# Altium footprint library Andon Electronics.PcbLib: 3 footprints
Each footprint in its own frame and in the unit in brackets; x right, y up, seen from the top. Pads: shape width x height; smd on the part's side, far side on the other; paste and mask are expansions set on the pad; w line width, h text height; cw(c..) or ccw(c..) is an arc to the next point about the centre after c.
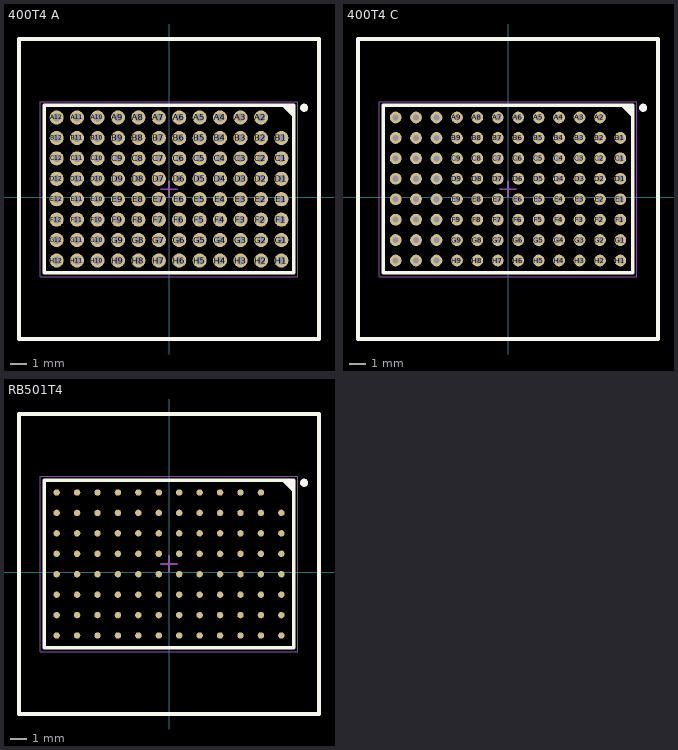
[diagram p0: the footprints below, top view; thin cyan lines are the x and y axes]

## 400T4 A [mm]
pads (95):
  round 0.88 hole 0.48: A2(5.715,4.953) A3(4.445,4.953) A4(3.175,4.953) A5(1.905,4.953) A6(0.635,4.953) A7(-0.635,4.953) A8(-1.905,4.953) A9(-3.175,4.953) A10(-4.445,4.953) A11(-5.715,4.953) A12(-6.985,4.953) B1(6.985,3.683) B2(5.715,3.683) B3(4.445,3.683) B4(3.175,3.683) B5(1.905,3.683) B6(0.635,3.683) B7(-0.635,3.683) B8(-1.905,3.683) B9(-3.175,3.683) B10(-4.445,3.683) B11(-5.715,3.683) B12(-6.985,3.683) C1(6.985,2.413) C2(5.715,2.413) C3(4.445,2.413) C4(3.175,2.413) C5(1.905,2.413) C6(0.635,2.413) C7(-0.635,2.413) C8(-1.905,2.413) C9(-3.175,2.413) C10(-4.445,2.413) C11(-5.715,2.413) C12(-6.985,2.413) D1(6.985,1.143) D2(5.715,1.143) D3(4.445,1.143) D4(3.175,1.143) D5(1.905,1.143) D6(0.635,1.143) D7(-0.635,1.143) D8(-1.905,1.143) D9(-3.175,1.143) D10(-4.445,1.143) D11(-5.715,1.143) D12(-6.985,1.143) E1(6.985,-0.127) E2(5.715,-0.127) E3(4.445,-0.127) E4(3.175,-0.127) E5(1.905,-0.127) E6(0.635,-0.127) E7(-0.635,-0.127) E8(-1.905,-0.127) E9(-3.175,-0.127) E10(-4.445,-0.127) E11(-5.715,-0.127) E12(-6.985,-0.127) F1(6.985,-1.397) F2(5.715,-1.397) F3(4.445,-1.397) F4(3.175,-1.397) F5(1.905,-1.397) F6(0.635,-1.397) F7(-0.635,-1.397) F8(-1.905,-1.397) F9(-3.175,-1.397) F10(-4.445,-1.397) F11(-5.715,-1.397) F12(-6.985,-1.397) G1(6.985,-2.667) G2(5.715,-2.667) G3(4.445,-2.667) G4(3.175,-2.667) G5(1.905,-2.667) G6(0.635,-2.667) G7(-0.635,-2.667) G8(-1.905,-2.667) G9(-3.175,-2.667) G10(-4.445,-2.667) G11(-5.715,-2.667) G12(-6.985,-2.667) H1(6.985,-3.937) H2(5.715,-3.937) H3(4.445,-3.937) H4(3.175,-3.937) H5(1.905,-3.937) H6(0.635,-3.937) H7(-0.635,-3.937) H8(-1.905,-3.937) H9(-3.175,-3.937) H10(-4.445,-3.937) H11(-5.715,-3.937) H12(-6.985,-3.937)
Top Overlay:
  circle w0.25: c8.4,5.558 r0.125
  region: 7.093,5.708 7.75,5.051 7.75,5.708
  lines w0.2: 7.093,5.708 7.75,5.051 ; -7.75,-4.692 -7.75,5.708 7.75,5.708 7.75,-4.692 -7.75,-4.692
  lines w0.254: -9.325,-8.817 -9.325,9.833 9.325,9.833 9.325,-8.817 -9.325,-8.817
Mechanical 13:
  lines w0.1: -7.745,-4.687 -7.745,5.703 7.745,5.703 7.745,-4.687 -7.745,-4.687
Mechanical 15:
  lines w0.05: -7.999,-4.953 -7.999,5.947 8.001,5.947 8.001,-4.953 -7.999,-4.953
  lines w0.1: -0.499,0.497 0.501,0.497 ; 0.001,-0.003 0.001,0.997
3D body: height 3.4, standoff 0.16, extent -7.745,-4.687 7.745,5.703

## 400T4 C [mm]
pads (95):
  round 0.73 hole 0.38: A2(5.715,4.953) A3(4.445,4.953) A4(3.175,4.953) A5(1.905,4.953) A6(0.635,4.953) A7(-0.635,4.953) A8(-1.905,4.953) A9(-3.175,4.953) A10(-4.445,4.953) A11(-5.715,4.953) A12(-6.985,4.953) B1(6.985,3.683) B2(5.715,3.683) B3(4.445,3.683) B4(3.175,3.683) B5(1.905,3.683) B6(0.635,3.683) B7(-0.635,3.683) B8(-1.905,3.683) B9(-3.175,3.683) B10(-4.445,3.683) B11(-5.715,3.683) B12(-6.985,3.683) C1(6.985,2.413) C2(5.715,2.413) C3(4.445,2.413) C4(3.175,2.413) C5(1.905,2.413) C6(0.635,2.413) C7(-0.635,2.413) C8(-1.905,2.413) C9(-3.175,2.413) C10(-4.445,2.413) C11(-5.715,2.413) C12(-6.985,2.413) D1(6.985,1.143) D2(5.715,1.143) D3(4.445,1.143) D4(3.175,1.143) D5(1.905,1.143) D6(0.635,1.143) D7(-0.635,1.143) D8(-1.905,1.143) D9(-3.175,1.143) D10(-4.445,1.143) D11(-5.715,1.143) D12(-6.985,1.143) E1(6.985,-0.127) E2(5.715,-0.127) E3(4.445,-0.127) E4(3.175,-0.127) E5(1.905,-0.127) E6(0.635,-0.127) E7(-0.635,-0.127) E8(-1.905,-0.127) E9(-3.175,-0.127) E10(-4.445,-0.127) E11(-5.715,-0.127) E12(-6.985,-0.127) F1(6.985,-1.397) F2(5.715,-1.397) F3(4.445,-1.397) F4(3.175,-1.397) F5(1.905,-1.397) F6(0.635,-1.397) F7(-0.635,-1.397) F8(-1.905,-1.397) F9(-3.175,-1.397) F10(-4.445,-1.397) F11(-5.715,-1.397) F12(-6.985,-1.397) G1(6.985,-2.667) G2(5.715,-2.667) G3(4.445,-2.667) G4(3.175,-2.667) G5(1.905,-2.667) G6(0.635,-2.667) G7(-0.635,-2.667) G8(-1.905,-2.667) G9(-3.175,-2.667) G10(-4.445,-2.667) G11(-5.715,-2.667) G12(-6.985,-2.667) H1(6.985,-3.937) H2(5.715,-3.937) H3(4.445,-3.937) H4(3.175,-3.937) H5(1.905,-3.937) H6(0.635,-3.937) H7(-0.635,-3.937) H8(-1.905,-3.937) H9(-3.175,-3.937) H10(-4.445,-3.937) H11(-5.715,-3.937) H12(-6.985,-3.937)
Top Overlay:
  circle w0.25: c8.4,5.558 r0.125
  region: 7.093,5.708 7.75,5.051 7.75,5.708
  lines w0.2: 7.093,5.708 7.75,5.051 ; -7.75,-4.692 7.75,-4.692 7.75,5.708 -7.75,5.708 -7.75,-4.692
  lines w0.254: -9.325,-8.817 9.325,-8.817 9.325,9.833 -9.325,9.833 -9.325,-8.817
Mechanical 13:
  lines w0.1: -7.745,-4.687 7.745,-4.687 7.745,5.703 -7.745,5.703 -7.745,-4.687
Mechanical 15:
  lines w0.05: -7.999,-4.953 8.001,-4.953 8.001,5.947 -7.999,5.947 -7.999,-4.953
  lines w0.1: -0.499,0.497 0.501,0.497 ; 0.001,-0.003 0.001,0.997

## RB501T4 [mm] "BGA, 95-Leads, Body 15.49x10.39mmx3.40mm, Pitch 1.27mm"
height 3.4
pads (95):
  round 0.4 smd: A2(5.715,4.953) A3(4.445,4.953) A4(3.175,4.953) A5(1.905,4.953) A6(0.635,4.953) A7(-0.635,4.953) A8(-1.905,4.953) A9(-3.175,4.953) A10(-4.445,4.953) A11(-5.715,4.953) A12(-6.985,4.953) B1(6.985,3.683) B2(5.715,3.683) B3(4.445,3.683) B4(3.175,3.683) B5(1.905,3.683) B6(0.635,3.683) B7(-0.635,3.683) B8(-1.905,3.683) B9(-3.175,3.683) B10(-4.445,3.683) B11(-5.715,3.683) B12(-6.985,3.683) C1(6.985,2.413) C2(5.715,2.413) C3(4.445,2.413) C4(3.175,2.413) C5(1.905,2.413) C6(0.635,2.413) C7(-0.635,2.413) C8(-1.905,2.413) C9(-3.175,2.413) C10(-4.445,2.413) C11(-5.715,2.413) C12(-6.985,2.413) D1(6.985,1.143) D2(5.715,1.143) D3(4.445,1.143) D4(3.175,1.143) D5(1.905,1.143) D6(0.635,1.143) D7(-0.635,1.143) D8(-1.905,1.143) D9(-3.175,1.143) D10(-4.445,1.143) D11(-5.715,1.143) D12(-6.985,1.143) E1(6.985,-0.127) E2(5.715,-0.127) E3(4.445,-0.127) E4(3.175,-0.127) E5(1.905,-0.127) E6(0.635,-0.127) E7(-0.635,-0.127) E8(-1.905,-0.127) E9(-3.175,-0.127) E10(-4.445,-0.127) E11(-5.715,-0.127) E12(-6.985,-0.127) F1(6.985,-1.397) F2(5.715,-1.397) F3(4.445,-1.397) F4(3.175,-1.397) F5(1.905,-1.397) F6(0.635,-1.397) F7(-0.635,-1.397) F8(-1.905,-1.397) F9(-3.175,-1.397) F10(-4.445,-1.397) F11(-5.715,-1.397) F12(-6.985,-1.397) G1(6.985,-2.667) G2(5.715,-2.667) G3(4.445,-2.667) G4(3.175,-2.667) G5(1.905,-2.667) G6(0.635,-2.667) G7(-0.635,-2.667) G8(-1.905,-2.667) G9(-3.175,-2.667) G10(-4.445,-2.667) G11(-5.715,-2.667) G12(-6.985,-2.667) H1(6.985,-3.937) H2(5.715,-3.937) H3(4.445,-3.937) H4(3.175,-3.937) H5(1.905,-3.937) H6(0.635,-3.937) H7(-0.635,-3.937) H8(-1.905,-3.937) H9(-3.175,-3.937) H10(-4.445,-3.937) H11(-5.715,-3.937) H12(-6.985,-3.937)
Top Overlay:
  circle w0.25: c8.4,5.558 r0.125
  region: 7.093,5.708 7.75,5.051 7.75,5.708
  lines w0.2: 7.093,5.708 7.75,5.051 ; -7.75,-4.692 7.75,-4.692 7.75,5.708 -7.75,5.708 -7.75,-4.692
  lines w0.254: -9.325,-8.817 9.325,-8.817 9.325,9.833 -9.325,9.833 -9.325,-8.817
Mechanical 13:
  lines w0.1: -7.745,-4.687 7.745,-4.687 7.745,5.703 -7.745,5.703 -7.745,-4.687
Mechanical 15:
  lines w0.05: -8,-4.942 8,-4.942 8,5.958 -8,5.958 -8,-4.942
  lines w0.1: -0.5,0.508 0.5,0.508 ; 0,0.008 0,1.008